# EAGLE library part SN65LVDT348_PW_1 (library pavlo)
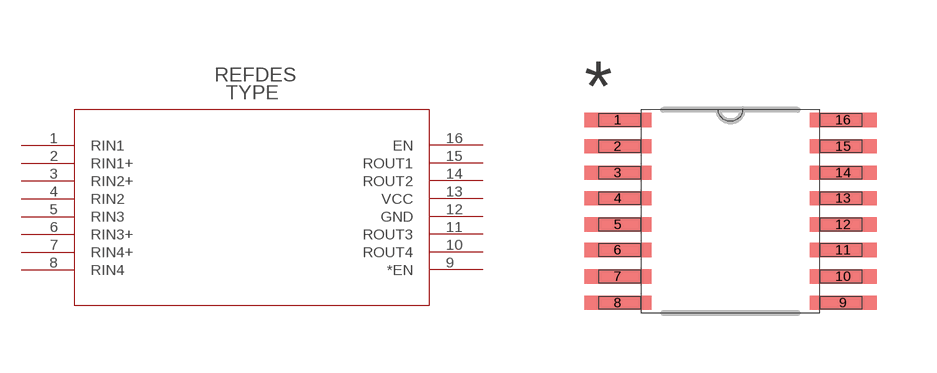
[diagram p11: symbol with the pads of PW16; footprint PW16]

Designator prefix U

## SN65LVDT348_PW_1  [PW16]
1  RIN1  pas
2  RIN1+  pas
3  RIN2+  pas
4  RIN2  pas
5  RIN3  pas
6  RIN3+  pas
7  RIN4+  pas
8  RIN4  pas
9  *EN  pas
10  ROUT4  pas
11  ROUT3  pas
12  GND  pas
13  VCC  pas
14  ROUT2  pas
15  ROUT1  pas
16  EN  pas

## Footprint PW16 (pad centres in mm)
smd 1.676 x 0.356: 1 -2.819,2.286; 2 -2.819,1.626; 3 -2.819,0.965; 4 -2.819,0.33; 5 -2.819,-0.33; 6 -2.819,-0.965; 7 -2.819,-1.626; 8 -2.819,-2.286; 9 2.819,-2.286; 10 2.819,-1.626; 11 2.819,-0.965; 12 2.819,-0.33; 13 2.819,0.33; 14 2.819,0.965; 15 2.819,1.626; 16 2.819,2.286